# Altium schematic symbol library 251R15S100JV4E.SchLib: 1 symbol
Pins are listed as number, name and electrical type; pins without a type are passive.

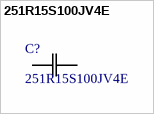
[diagram p0: symbol 251R15S100JV4E]

## 251R15S100JV4E
designator C?
No Description Available; Manufacturer_Name: Johanson Technology; Copyright: Copyright (C) 2026 Ultra Librarian. All rights reserved.; Manufacturer_Part_Number: 251R15S100JV4E
footprint CAP_R15_JOD
pins: 1, 2